# EAGLE library part CX60-24S-UNIT (library Connectors)
USB Type-C(TM) plug
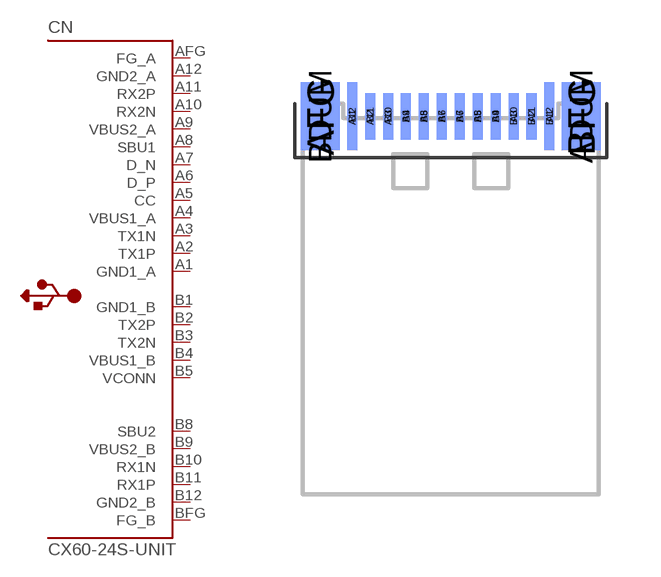
[diagram p7: symbol with the pads of CX60-24S-UNIT; footprint CX60-24S-UNIT]

Designator prefix CN

## CX60-24S-UNIT  [CX60-24S-UNIT]
A1  GND1_A  pas
A2  TX1P
A3  TX1N
A4  VBUS1_A  pas
A5  CC  pas
A6  D_P
A7  D_N
A8  SBU1  pas
A9  VBUS2_A  pas
A10  RX2N  pas
A11  RX2P
A12  GND2_A
AFG  FG_A  pas
B1  GND1_B  pas
B2  TX2P
B3  TX2N
B4  VBUS1_B  pas
B5  VCONN  pas
B8  SBU2  pas
B9  VBUS2_B  pas
B10  RX1N
B11  RX1P
B12  GND2_B  pas
BFG  FG_B  pas

## Footprint CX60-24S-UNIT (pad centres in mm)
USB Type-C(TM) plug Designed for CX60-24S-UNIT (Hirose)
smd 0.28 x 1.9: A1 2.75,0; A12 -2.75,0
smd 0.28 x 1.3: A2 2.25,0; A3 1.75,0; A4 1.25,0; A5 0.75,0; A6 0.25,0; A7 -0.25,0; A8 -0.75,0; A9 -1.25,0; A10 -1.75,0; A11 -2.25,0
smd 1.08 x 1.9: ADUM 3.64,0; AFG -3.64,0
smd 0.28 x 1.9 bottom: B1 -2.75,0; B12 2.75,0
smd 0.28 x 1.3 bottom: B2 -2.25,0; B3 -1.75,0; B4 -1.25,0; B5 -0.75,0; B6 -0.25,0; B7 0.25,0; B8 0.75,0; B9 1.25,0; B10 1.75,0; B11 2.25,0
smd 1.08 x 1.9 bottom: BDUM -3.64,0; BFG 3.64,0